# EAGLE library part TEN202411WIN (library traco)
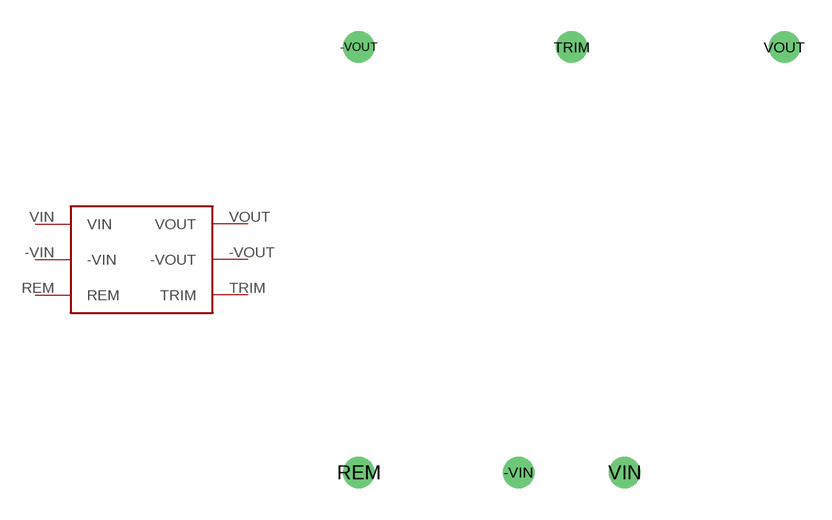
[diagram p4: symbol with the pads of TEN202411WIN; footprint TEN202411WIN]

Designator prefix -

## TEN202411WIN  [TEN202411WIN]
-VIN  -VIN
-VOUT  -VOUT
REM  REM
TRIM  TRIM
VIN  VIN
VOUT  VOUT

## Footprint TEN202411WIN (pad centres in mm)
drill 1: -VIN -2.58,-11.03; -VOUT -10.2,9.29; REM -10.2,-11.03; TRIM -0.04,9.29; VIN 2.5,-11.03; VOUT 10.12,9.29